# EAGLE library part XR-T5690J (library exar)
T1/ISDN PRIMARY RATE FRAMER
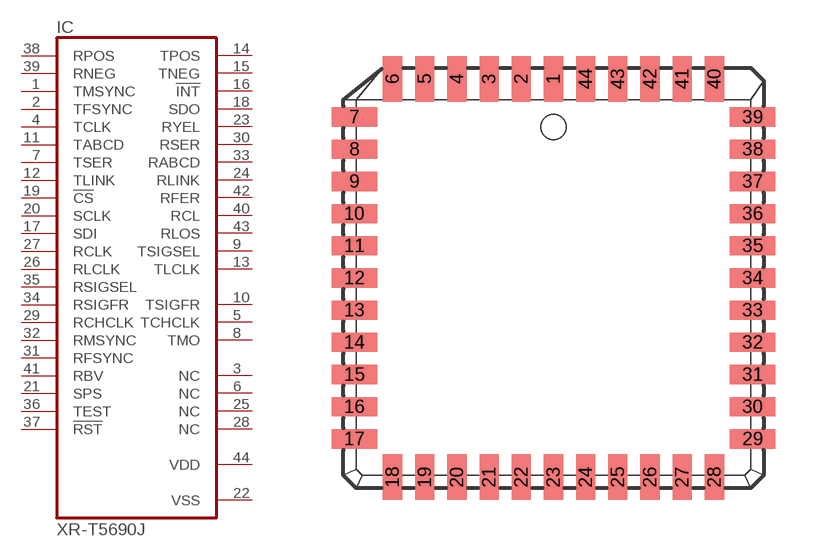
[diagram p43: symbol with the pads of PLCC44; footprint PLCC44]

Designator prefix IC

## XR-T5690J (OC_FARNELL: unknown; OC_NEWARK: unknown)  [PLCC44]
1  TMSYNC  in
2  TFSYNC  in
3  NC  nc
4  TCLK  in
5  TCHCLK  out
6  NC  nc
7  TSER  in
8  TMO  out
9  TSIGSEL  out
10  TSIGFR  out
11  TABCD  in
12  TLINK  in
13  TLCLK  out
14  TPOS  out
15  TNEG  out
16  !INT  out
17  SDI  in
18  SDO  out
19  !CS  in
20  SCLK  in
21  SPS  in
22  VSS  pwr
23  RYEL  out
24  RLINK  out
25  NC  nc
26  RLCLK  in
27  RCLK  in
28  NC  nc
29  RCHCLK  in
30  RSER  out
31  RFSYNC  in
32  RMSYNC  in
33  RABCD  out
34  RSIGFR  in
35  RSIGSEL  in
36  TEST  in
37  !RST  in
38  RPOS  in
39  RNEG  in
40  RCL  out
41  RBV  in
42  RFER  out
43  RLOS  out
44  VDD  pwr

## Footprint PLCC44 (pad centres in mm)
Plastic Leaded Chip Carrier
smd 0.76 x 1.8: 1 0,7.86; 2 -1.27,7.86; 3 -2.54,7.86; 4 -3.81,7.86; 5 -5.08,7.86; 6 -6.35,7.86; 18 -6.35,-7.86; 19 -5.08,-7.86; 20 -3.81,-7.86; 21 -2.54,-7.86; 22 -1.27,-7.86; 23 0,-7.86; 24 1.27,-7.86; 25 2.54,-7.86; 26 3.81,-7.86; 27 5.08,-7.86; 28 6.35,-7.86; 40 6.35,7.86; 41 5.08,7.86; 42 3.81,7.86; 43 2.54,7.86; 44 1.27,7.86
smd 1.8 x 0.76: 7 -7.86,6.35; 8 -7.86,5.08; 9 -7.86,3.81; 10 -7.86,2.54; 11 -7.86,1.27; 12 -7.86,0; 13 -7.86,-1.27; 14 -7.86,-2.54; 15 -7.86,-3.81; 16 -7.86,-5.08; 17 -7.86,-6.35; 29 7.86,-6.35; 30 7.86,-5.08; 31 7.86,-3.81; 32 7.86,-2.54; 33 7.86,-1.27; 34 7.86,0; 35 7.86,1.27; 36 7.86,2.54; 37 7.86,3.81; 38 7.86,5.08; 39 7.86,6.35